# Altium footprint library apollo.PcbLib: 245 footprints (part 16 of 16)
Each footprint in its own frame and in the unit in brackets; x right, y up, seen from the top. Pads: shape width x height; smd on the part's side, far side on the other; paste and mask are expansions set on the pad; w line width, h text height; cw(c..) or ccw(c..) is an arc to the next point about the centre after c.
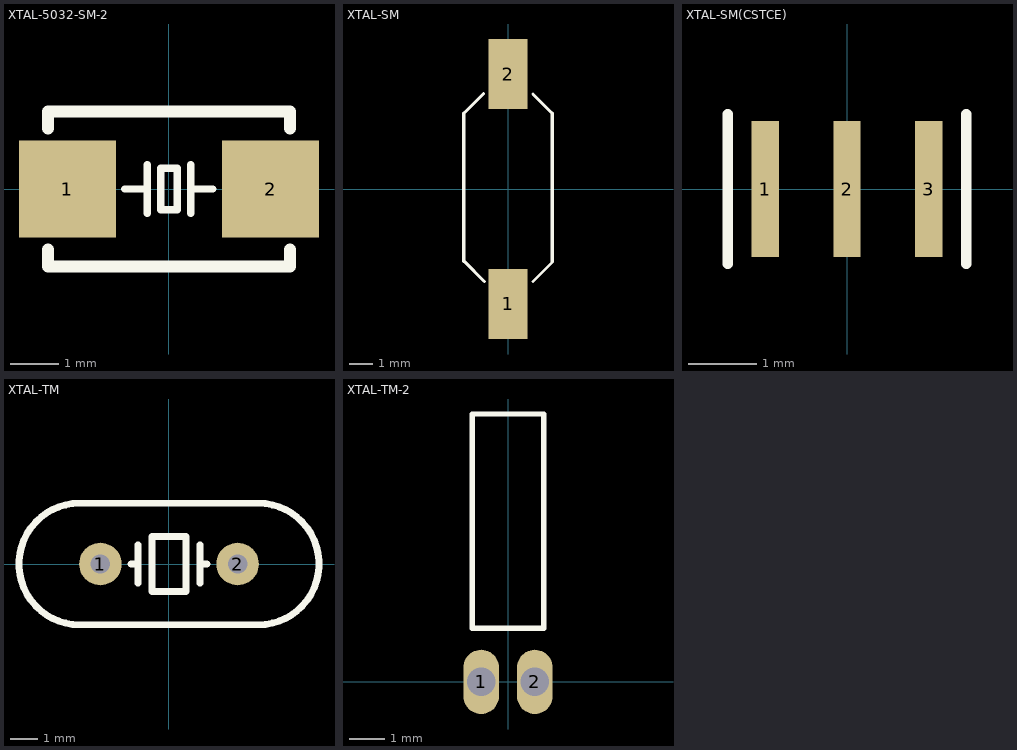
[diagram p15: the footprints below, top view; thin cyan lines are the x and y axes]

## XTAL-5032-SM-2 [mm] "5032 贴片晶振，2pin"
pads (2):
  rect 2x2 smd: 1(-2.1,0) 2(2.1,0)
Top Overlay:
  lines w0.15: -0.92,0 -0.46,0 ; -0.45,-0.5 -0.45,0.5 ; 0.45,-0.5 0.45,0.5 ; 0.45,0 0.91,0 ; -0.17,-0.43 -0.17,0.43 0.17,0.43 0.17,-0.43 -0.17,-0.43
  lines w0.254: -2.5,-1.25 -2.5,-1.6 2.5,-1.6 2.5,-1.25 ; -2.5,1.25 -2.5,1.6 2.5,1.6 2.5,1.25

## XTAL-SM [mil] "假表贴晶振"
pads (2):
  rect 65x118.11 smd: 1(0,-194) 2(0,194)
Top Overlay:
  lines w5: -75,-122 -74,-122 -40,-156 ; -75,128 -74,128 -41,161 ; 42,-156 75,-123 75,-122 ; 42,160 74,128 75,128
  lines w6: -75,-122 -75,128 ; 75,-122 75,128

## XTAL-SM(CSTCE) [mm] "3脚贴片陶瓷晶振"
height 1
pads (3):
  rect 0.4x2 smd: 1(-1.2,0) 2(0,0) 3(1.2,0)
Top Overlay:
  lines w0.152: -1.75,-1.1 -1.75,1.1 ; 1.75,-1.1 1.75,1.1
3D body: height 0.7, standoff 0, extent -1.6,-0.6 1.6,0.7

## XTAL-TM [mil] "直插晶振"
pads (2):
  round 62 hole 28: 1(-100,0) 2(100,0)
Top Overlay:
  lines w10: -55.12,0 -45,0 ; -45,-28 -45,28 ; 45,-28 45,28 ; 45,0 55.12,0 ; -129.92,-88.58 cw(c-129.92,0) -129.92,88.58 129.92,88.58 cw(c129.92,0) 129.92,-88.58 -129.92,-88.58 ; -25,-40 -25,40 25,40 25,-40 -25,-40
3D body: height 132, standoff -39.37, extent -216.54,-90.55 219.46,85.45

## XTAL-TM-2 [mm] "直插圆柱体晶振"
pads (2):
  oval 1x1.8 hole 0.8: 1(-0.75,0) 2(0.75,0)
Top Overlay:
  lines w0.152: -1,1.5 -1,7.5 1,7.5 1,1.5 -1,1.5